# EAGLE library part PICOCLASP_VERT_50PIN (library molex)
1.00mm Pitch Pico-Clasp™ Wire-to-Board PCB Header, Dual Row, Vertical, 50 Circuits, with Pick-and-Place Tape Part Number: 501190-5017 http://www.molex.com/molex/products/datasheet.jsp?part=active/5011905017_PCB_HEADERS.xml
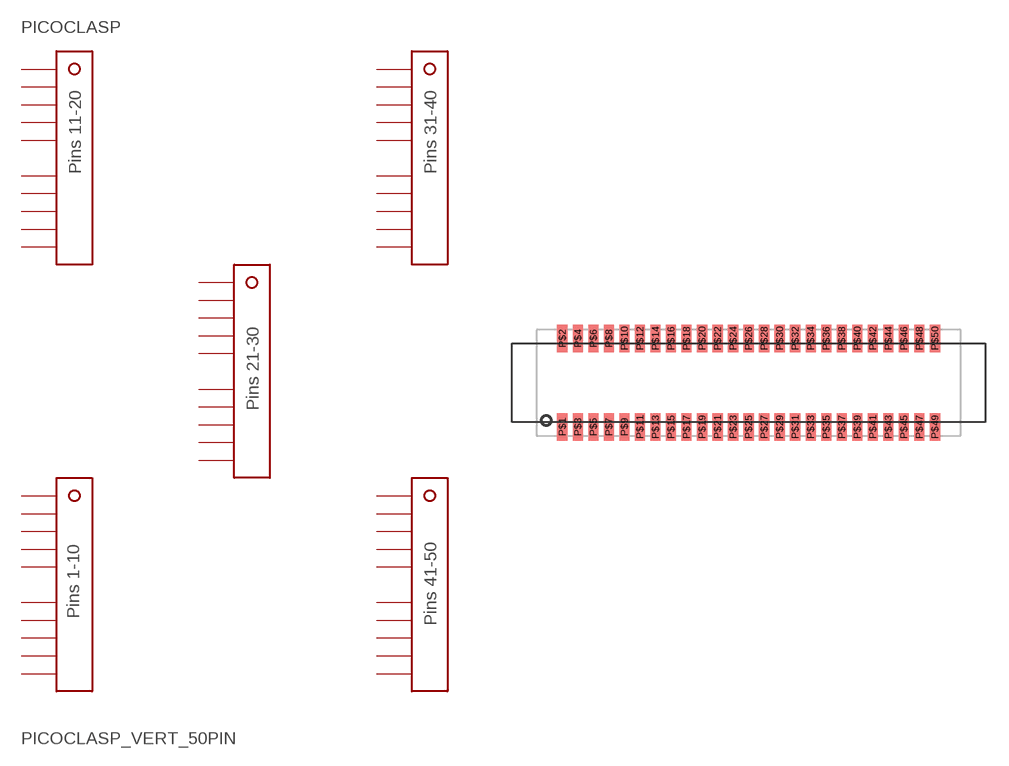
[diagram p0: symbol with the pads of PICOCLASP_VERT_50PIN; footprint PICOCLASP_VERT_50PIN]

Designator prefix PICOCLASP

## PICOCLASP_VERT_50PINSMD  [PICOCLASP_VERT_50PIN]
P$1  P$1
P$2  P$2
P$3  P$3
P$4  P$4
P$5  P$5
P$6  P$6
P$7  P$7
P$8  P$8
P$9  P$9
P$10  P$10
P$11  P$11
P$12  P$12
P$13  P$13
P$14  P$14
P$15  P$15
P$16  P$16
P$17  P$17
P$18  P$18
P$19  P$19
P$20  P$20
P$21  P$21
P$22  P$22
P$23  P$23
P$24  P$24
P$25  P$25
P$26  P$26
P$27  P$27
P$28  P$28
P$29  P$29
P$30  P$30
P$31  P$31
P$32  P$32
P$33  P$33
P$34  P$34
P$35  P$35
P$36  P$36
P$37  P$37
P$38  P$38
P$39  P$39
P$40  P$40
P$41  P$41
P$42  P$42
P$43  P$43
P$44  P$44
P$45  P$45
P$46  P$46
P$47  P$47
P$48  P$48
P$49  P$49
P$50  P$50

## Footprint PICOCLASP_VERT_50PIN (pad centres in mm)
smd 0.66 x 1.76: P$1 -12,-2.85; P$2 -12,2.85; P$3 -11,-2.85; P$4 -11,2.85; P$5 -10,-2.85; P$6 -10,2.85; P$7 -9,-2.85; P$8 -9,2.85; P$9 -8,-2.85; P$10 -8,2.85; P$11 -7,-2.85; P$12 -7,2.85; P$13 -6,-2.85; P$14 -6,2.85; P$15 -5,-2.85; P$16 -5,2.85; P$17 -4,-2.85; P$18 -4,2.85; P$19 -3,-2.85; P$20 -3,2.85; P$21 -2,-2.85; P$22 -2,2.85; P$23 -1,-2.85; P$24 -1,2.85; P$25 0,-2.85; P$26 0,2.85; P$27 1,-2.85; P$28 1,2.85; P$29 2,-2.85; P$30 2,2.85; P$31 3,-2.85; P$32 3,2.85; P$33 4,-2.85; P$34 4,2.85; P$35 5,-2.85; P$36 5,2.85; P$37 6,-2.85; P$38 6,2.85; P$39 7,-2.85; P$40 7,2.85; P$41 8,-2.85; P$42 8,2.85; P$43 9,-2.85; P$44 9,2.85; P$45 10,-2.85; P$46 10,2.85; P$47 11,-2.85; P$48 11,2.85; P$49 12,-2.85; P$50 12,2.85